# Altium schematic symbol library Resistor.SchLib: 2 symbols
Pins are listed as number, name and electrical type; pins without a type are passive.

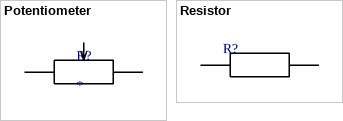
[diagram p0: symbols Potentiometer to Resistor]

## Potentiometer
designator R?
footprint С6VSMD
footprint CA6XH2.5
footprint 3314j
footprint JBR-3296W
footprint 3362S
footprint TC33X
pins: 1, 2, 3

## Resistor
designator R?  (value not drawn)
Order: *
footprint 0402
footprint 0603
footprint 0805
footprint 1206
footprint 1210
footprint 2010
footprint 2512
pins: 1, 2